# Altium footprint library EC20.PcbLib: 17 footprints (part 2 of 2)
Each footprint in its own frame and in the unit in brackets; x right, y up, seen from the top. Pads: shape width x height; smd on the part's side, far side on the other; paste and mask are expansions set on the pad; w line width, h text height; cw(c..) or ccw(c..) is an arc to the next point about the centre after c.
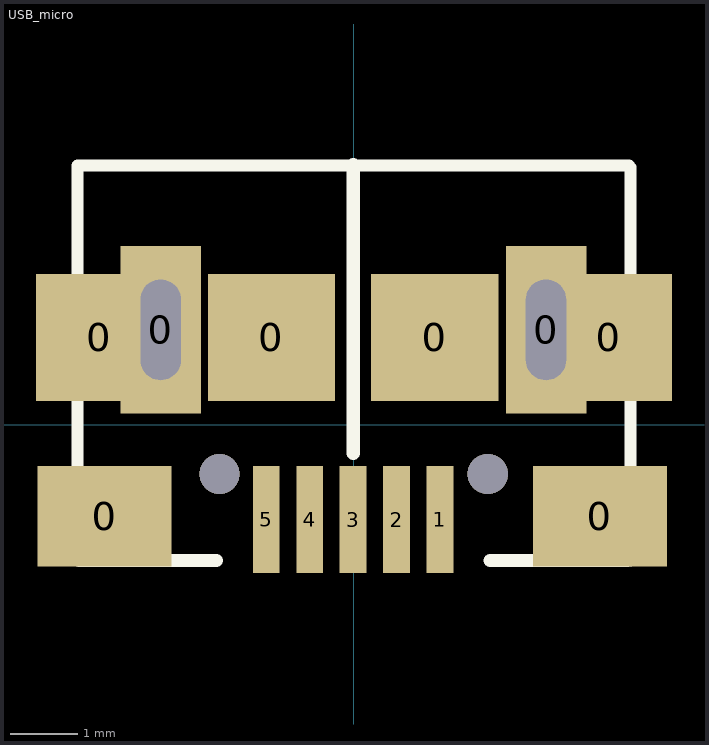
[diagram p1: the footprint, top view; thin cyan lines are the x and y axes]

## USB_micro [mm]
pads (13):
  rect 1.9x1.9 smd: 0(-3.797,1.302) 0(-1.232,1.302) 0(1.207,1.302) 0(3.797,1.302)
  rect 2x1.5 smd: 0(-3.721,-1.365) 0(3.67,-1.365)
  rect 1.2x2.5 hole 0.6 slot 1.5 at 90 deg: 0(-2.885,1.416) 0(2.865,1.416)
  rect 0.4x1.6 smd: 1(1.283,-1.416) 2(0.635,-1.416) 3(-0.013,-1.416) 4(-0.66,-1.416) 5(-1.308,-1.416)
via -2.006,-0.734 diameter 0.6 hole 0.6
via 1.994,-0.734 diameter 0.6 hole 0.6
Top Overlay:
  lines w0.178: -4.127,-2.025 -4.127,3.867 ; -4.102,3.867 4.102,3.867 ; 4.128,-2.025 4.128,3.842
  lines w0.2: -4.102,-2.025 -2.057,-2.025 ; -0.013,-0.425 -0.013,3.879 ; 2.032,-2.025 4.077,-2.025
3D body "MICRO USB.STEP": height 2.77, standoff -0.17, extent -4.1,-2.05 4.1,3.88